# Altium schematic symbol library Logos.SchLib: 1 symbol
Pins are listed as number, name and electrical type; pins without a type are passive.

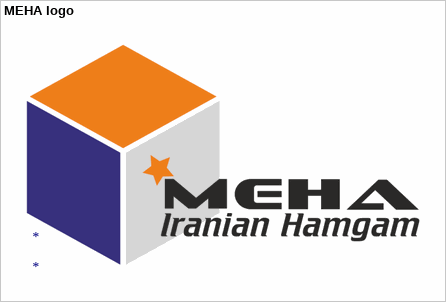
[diagram p0: symbol MEHA logo]

## MEHA logo
designator *
footprint MEHA_32_18.5
footprint MEHA_25.5_14.5